# EAGLE library part BREADBOARD (library PP_Connectors)
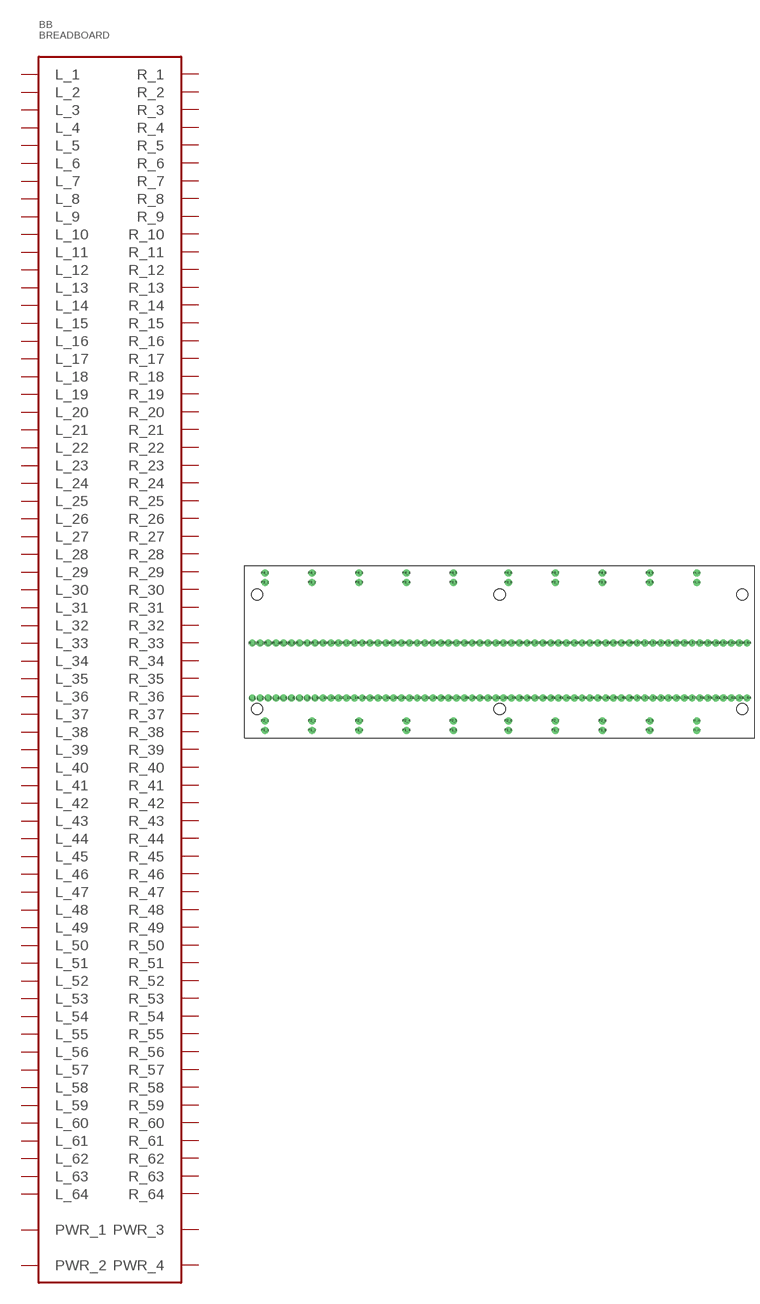
[diagram p11: symbol with the pads of 0165-4214-7-9010; footprint 0165-4214-7-9010]

Designator prefix BB

## BREADBOARD_0165-4214-7-9010 (POPULATE: 1)  [0165-4214-7-9010]
L_1  L_1
L_2  L_2
L_3  L_3
L_4  L_4
L_5  L_5
L_6  L_6
L_7  L_7
L_8  L_8
L_9  L_9
L_10  L_10
L_11  L_11
L_12  L_12
L_13  L_13
L_14  L_14
L_15  L_15
L_16  L_16
L_17  L_17
L_18  L_18
L_19  L_19
L_20  L_20
L_21  L_21
L_22  L_22
L_23  L_23
L_24  L_24
L_25  L_25
L_26  L_26
L_27  L_27
L_28  L_28
L_29  L_29
L_30  L_30
L_31  L_31
L_32  L_32
L_33  L_33
L_34  L_34
L_35  L_35
L_36  L_36
L_37  L_37
L_38  L_38
L_39  L_39
L_40  L_40
L_41  L_41
L_42  L_42
L_43  L_43
L_44  L_44
L_45  L_45
L_46  L_46
L_47  L_47
L_48  L_48
L_49  L_49
L_50  L_50
L_51  L_51
L_52  L_52
L_53  L_53
L_54  L_54
L_55  L_55
L_56  L_56
L_57  L_57
L_58  L_58
L_59  L_59
L_60  L_60
L_61  L_61
L_62  L_62
L_63  L_63
L_64  L_64
P1_1  PWR_1
P1_2  PWR_1
P1_3  PWR_1
P1_4  PWR_1
P1_5  PWR_1
P1_6  PWR_1
P1_7  PWR_1
P1_8  PWR_1
P1_9  PWR_1
P1_10  PWR_1
P2_1  PWR_2
P2_2  PWR_2
P2_3  PWR_2
P2_4  PWR_2
P2_5  PWR_2
P2_6  PWR_2
P2_7  PWR_2
P2_8  PWR_2
P2_9  PWR_2
P2_10  PWR_2
P3_1  PWR_3
P3_2  PWR_3
P3_3  PWR_3
P3_4  PWR_3
P3_5  PWR_3
P3_6  PWR_3
P3_7  PWR_3
P3_8  PWR_3
P3_9  PWR_3
P3_10  PWR_3
P4_1  PWR_4
P4_2  PWR_4
P4_3  PWR_4
P4_4  PWR_4
P4_5  PWR_4
P4_6  PWR_4
P4_7  PWR_4
P4_8  PWR_4
P4_9  PWR_4
P4_10  PWR_4
R_1  R_1
R_2  R_2
R_3  R_3
R_4  R_4
R_5  R_5
R_6  R_6
R_7  R_7
R_8  R_8
R_9  R_9
R_10  R_10
R_11  R_11
R_12  R_12
R_13  R_13
R_14  R_14
R_15  R_15
R_16  R_16
R_17  R_17
R_18  R_18
R_19  R_19
R_20  R_20
R_21  R_21
R_22  R_22
R_23  R_23
R_24  R_24
R_25  R_25
R_26  R_26
R_27  R_27
R_28  R_28
R_29  R_29
R_30  R_30
R_31  R_31
R_32  R_32
R_33  R_33
R_34  R_34
R_35  R_35
R_36  R_36
R_37  R_37
R_38  R_38
R_39  R_39
R_40  R_40
R_41  R_41
R_42  R_42
R_43  R_43
R_44  R_44
R_45  R_45
R_46  R_46
R_47  R_47
R_48  R_48
R_49  R_49
R_50  R_50
R_51  R_51
R_52  R_52
R_53  R_53
R_54  R_54
R_55  R_55
R_56  R_56
R_57  R_57
R_58  R_58
R_59  R_59
R_60  R_60
R_61  R_61
R_62  R_62
R_63  R_63
R_64  R_64

## Footprint 0165-4214-7-9010 (pad centres in mm)
drill 1.5 pad 2.1: L_1 2.54,12.93; L_2 5.08,12.93; L_3 7.62,12.93; L_4 10.16,12.93; L_5 12.7,12.93; L_6 15.24,12.93; L_7 17.78,12.93; L_8 20.32,12.93; L_9 22.86,12.93; L_10 25.4,12.93; L_11 27.94,12.93; L_12 30.48,12.93; L_13 33.02,12.93; L_14 35.56,12.93; L_15 38.1,12.93; L_16 40.64,12.93; L_17 43.18,12.93; L_18 45.72,12.93; L_19 48.26,12.93; L_20 50.8,12.93; L_21 53.34,12.93; L_22 55.88,12.93; L_23 58.42,12.93; L_24 60.96,12.93; L_25 63.5,12.93; L_26 66.04,12.93; L_27 68.58,12.93; L_28 71.12,12.93; L_29 73.66,12.93; L_30 76.2,12.93; L_31 78.74,12.93; L_32 81.28,12.93; L_33 83.82,12.93; L_34 86.36,12.93; L_35 88.9,12.93; L_36 91.44,12.93; L_37 93.98,12.93; L_38 96.52,12.93; L_39 99.06,12.93; L_40 101.6,12.93; L_41 104.14,12.93; L_42 106.68,12.93; L_43 109.22,12.93; L_44 111.76,12.93; L_45 114.3,12.93; L_46 116.84,12.93; L_47 119.38,12.93; L_48 121.92,12.93; L_49 124.46,12.93; L_50 127,12.93; L_51 129.54,12.93; L_52 132.08,12.93; L_53 134.62,12.93; L_54 137.16,12.93; L_55 139.7,12.93; L_56 142.24,12.93; L_57 144.78,12.93; L_58 147.32,12.93; L_59 149.86,12.93; L_60 152.4,12.93; L_61 154.94,12.93; L_62 157.48,12.93; L_63 160.02,12.93; L_64 162.56,12.93; R_1 2.54,30.71; R_2 5.08,30.71; R_3 7.62,30.71; R_4 10.16,30.71; R_5 12.7,30.71; R_6 15.24,30.71; R_7 17.78,30.71; R_8 20.32,30.71; R_9 22.86,30.71; R_10 25.4,30.71; R_11 27.94,30.71; R_12 30.48,30.71; R_13 33.02,30.71; R_14 35.56,30.71; R_15 38.1,30.71; R_16 40.64,30.71; R_17 43.18,30.71; R_18 45.72,30.71; R_19 48.26,30.71; R_20 50.8,30.71; R_21 53.34,30.71; R_22 55.88,30.71; R_23 58.42,30.71; R_24 60.96,30.71; R_25 63.5,30.71; R_26 66.04,30.71; R_27 68.58,30.71; R_28 71.12,30.71; R_29 73.66,30.71; R_30 76.2,30.71; R_31 78.74,30.71; R_32 81.28,30.71; R_33 83.82,30.71; R_34 86.36,30.71; R_35 88.9,30.71; R_36 91.44,30.71; R_37 93.98,30.71; R_38 96.52,30.71; R_39 99.06,30.71; R_40 101.6,30.71; R_41 104.14,30.71; R_42 106.68,30.71; R_43 109.22,30.71; R_44 111.76,30.71; R_45 114.3,30.71; R_46 116.84,30.71; R_47 119.38,30.71; R_48 121.92,30.71; R_49 124.46,30.71; R_50 127,30.71; R_51 129.54,30.71; R_52 132.08,30.71; R_53 134.62,30.71; R_54 137.16,30.71; R_55 139.7,30.71; R_56 142.24,30.71; R_57 144.78,30.71; R_58 147.32,30.71; R_59 149.86,30.71; R_60 152.4,30.71; R_61 154.94,30.71; R_62 157.48,30.71; R_63 160.02,30.71; R_64 162.56,30.71
drill 1.5: P1_1 6.62,2.49; P1_2 21.86,2.49; P1_3 37.1,2.49; P1_4 52.34,2.49; P1_5 67.58,2.49; P1_6 85.36,2.49; P1_7 100.6,2.49; P1_8 115.84,2.49; P1_9 131.08,2.49; P1_10 146.32,2.49; P2_1 6.62,5.538; P2_2 21.86,5.538; P2_3 37.1,5.538; P2_4 52.34,5.538; P2_5 67.58,5.538; P2_6 85.36,5.538; P2_7 100.6,5.538; P2_8 115.84,5.538; P2_9 131.08,5.538; P2_10 146.32,5.538; P3_1 6.62,50.262; P3_2 21.86,50.262; P3_3 37.1,50.262; P3_4 52.34,50.262; P3_5 67.58,50.262; P3_6 85.36,50.262; P3_7 100.6,50.262; P3_8 115.84,50.262; P3_9 131.08,50.262; P3_10 146.32,50.262; P4_1 6.62,53.31; P4_2 21.86,53.31; P4_3 37.1,53.31; P4_4 52.34,53.31; P4_5 67.58,53.31; P4_6 85.36,53.31; P4_7 100.6,53.31; P4_8 115.84,53.31; P4_9 131.08,53.31; P4_10 146.32,53.31
hole 3.556 at 4.05,9.4
hole 3.556 at 4.05,46.4
hole 3.556 at 82.55,9.4
hole 3.556 at 82.55,46.4
hole 3.556 at 161.05,9.4
hole 3.556 at 161.05,46.4